# Altium footprint library DO-220AA.PcbLib: 1 footprints
Each footprint in its own frame and in the unit in brackets; x right, y up, seen from the top. Pads: shape width x height; smd on the part's side, far side on the other; paste and mask are expansions set on the pad; w line width, h text height; cw(c..) or ccw(c..) is an arc to the next point about the centre after c.
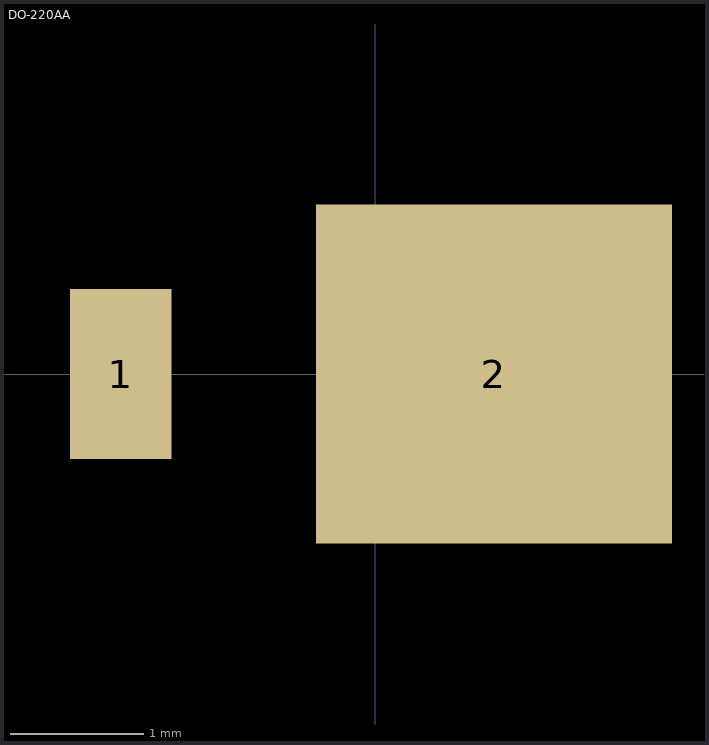
[diagram p0: the footprint, top view; thin cyan lines are the x and y axes]

## DO-220AA [mil]
pads (2):
  rect 30x50 smd: 1(-75,0)
  rect 105x100 smd: 2(35,0)
3D body "User Library-110835.STEP": height 45.67, standoff 0, extent -87.81,-42.91 82.88,42.92